# Altium schematic symbol library PMIC.SchLib: 9 symbols
Pins are listed as number, name and electrical type; pins without a type are passive.

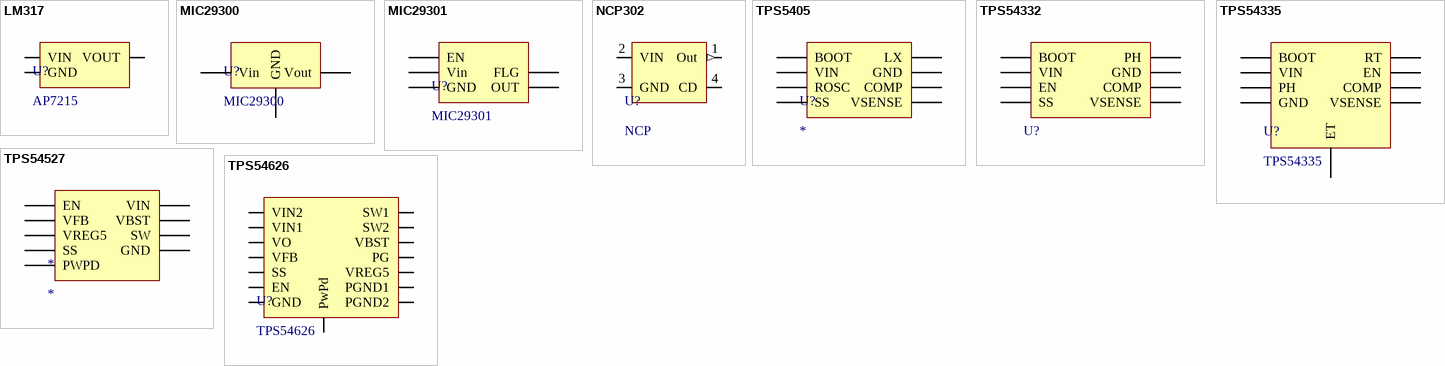
[diagram p0: symbols LM317 to TPS54626]

## LM317
designator U?, comment AP7215
3.3V LDO Regulator
pins: 1 GND, 2 VIN, 3 VOUT

## MIC29300
designator U?
Voltage Regulator
footprint DPAK254P1524X460-4N (D2-PAK, 4-Pads, Body 8.43x8.39mm (max), IPC Medium Density)
pins: 1 Vin, 2 GND, 3 Vout

## MIC29301
designator U?
LDO Regulator
footprint TO263-5LD-PL (5 Lead TO263)
pins: 1 EN, 2 Vin, 3 GND, 4 OUT, 5 FLG

## NCP302
designator U?, comment NCP
NCP302 Voltage Monitor
footprint SOT95P275X110-5N (SOT23, 5-Leads, Body 3.00x2.75mm, Pitch 0.95mm, IPC Medium Density)
pins: 1 Out (out), 2 VIN (power), 3 GND (power), 4 CD, 5 NC hidden

## TPS5405
designator U?
Switching Regulator
footprint SOIC127P600X175-8N (SOIC, 8-Leads, Body 4.90x3.90mm, Pitch 1.27mm, IPC Medium Density)
pins: 1 BOOT, 2 VIN, 3 ROSC, 4 SS, 5 VSENSE, 6 COMP, 7 GND, 8 LX

## TPS54332
designator U?  (value not drawn)
Switching Regulator
footprint SOIC127P600X170-8N (SOIC, 8-Leads, Body 4.90x3.90mm, Pitch 1.27mm, IPC Medium Density)
pins: 1 BOOT, 2 VIN, 3 EN, 4 SS, 5 VSENSE, 6 COMP, 7 GND, 8 PH

## TPS54335
designator U?
5V Switching Regulator
footprint SOIC127P600X170_HS-9N (SOIC, 8-Leads, Body 4.90x3.90mm, Pitch 1.27mm, Thermal Pad 3.10.2x2.00.2mm, IPC Medium Density)
pins: 1 BOOT, 2 VIN, 3 PH, 4 GND, 5 VSENSE, 6 COMP, 7 EN, 8 RT, 9 ET

## TPS54527
designator *
footprint SOIC127P600X170_HS-9N (SOIC, 8-Leads, Body 4.90x3.90mm, Pitch 1.27mm, Thermal Pad 3.10.2x2.00.2mm, IPC Medium Density)
pins: 1 EN, 2 VFB, 3 VREG5, 4 SS, 5 GND, 6 SW, 7 VBST, 8 VIN, 9 PWPD

## TPS54626
designator U?
Switching Regulator
footprint TSOP65P640X120_HS-15N (TSOP, 14-Leads, Body 5.00x4.40mm, Pitch 0.65mm, Thermal Pad 2.46.2x2.31.2mm, IPC Medium Density)
pins: 1 VO, 2 VFB, 3 VREG5, 4 SS, 5 GND, 6 PG, 7 EN, 8 PGND1, 9 PGND2, 10 SW1, 11 SW2, 12 VBST, 13 VIN1, 14 VIN2, 15 PwPd